# Altium schematic symbol library BOT1_2025.SchLib: 300 symbols (part 1 of 3)
Pins are listed as number, name and electrical type; pins without a type are passive.

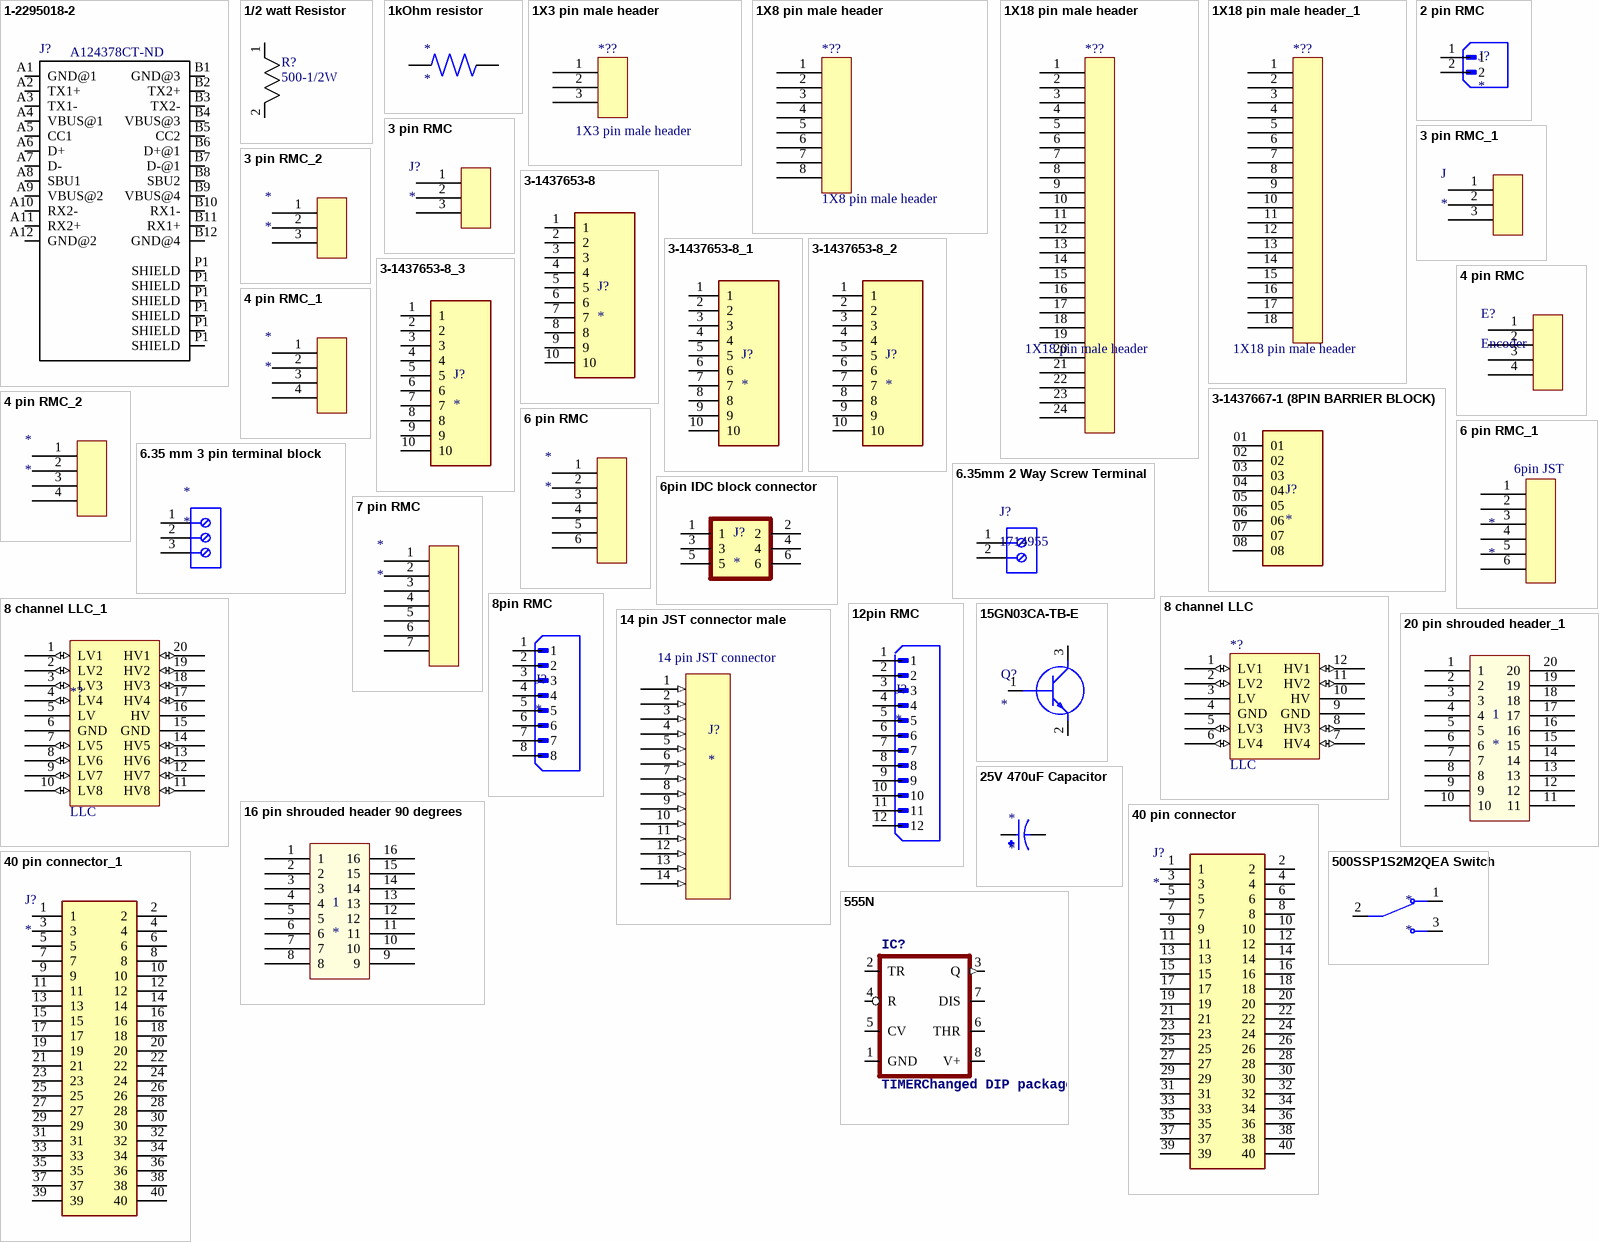
[diagram p0: symbols 1-2295018-2 to 555N]

## 1-2295018-2
designator J?, comment Supplier Part Number 1: A124378CT-ND  (hidden comment: 1-2295018-2 USB C Connector)
Conn USB Type C RCP 12 POS Solder RA SMD 12 Terminal 1 Port T/R; MF: TE Connectivity; Availability: Unavailable; SnapEDA_Link: https://www.snapeda.com/parts/1-2295018-2/TE%20Connectivity%20AMP%20Connectors/view-part/?ref=snap; Price: None; TE_purchase_URL: https://www.te.com/usa-en/product-1-2295018-2.html?te_bu=Cor&te_type=disp&te_campaign=seda_glo_cor-seda-global-disp-prtnr-fy19-seda-model-bom-cta_sma-317_1&elqCampaignId=32493; Package: None; MP: 1-2295018-2; Value: *; Supplier 1: Digi-Key
footprint TE_1-2295018-2_1-2295018-2(Primary)
pins: A1 GND@1, A2 TX1+, A3 TX1-, A4 VBUS@1, A5 CC1, A6 D+, A7 D-, A8 SBU1, A9 VBUS@2, A10 RX2-, A11 RX2+, A12 GND@2, B1 GND@3, B2 TX2+, B3 TX2-, B4 VBUS@3, B5 CC2, B6 D+@1, B7 D-@1, B8 SBU2, B9 VBUS@4, B10 RX1-, B11 RX1+, B12 GND@4, P1 SHIELD, P1 SHIELD, P1 SHIELD, P1 SHIELD, P1 SHIELD, P1 SHIELD

## 1/2 watt Resistor
designator R?, comment 500-1/2W
footprint R_Axial_DIN0309_L9.0mm_D3.2mm_P12.70mm_Horizontal
pins: 1, 2

## 1kOhm resistor
designator *
footprint 1kOhm Resistor
pins: 1, 2

## 1X3 pin male header
designator *??
footprint PinHeader_1x03_P2.54mm_Vertical
pins: 1, 2, 3

## 1X8 pin male header
designator *??
footprint PinHeader_1x08_P2.54mm_Vertical
pins: 1, 2, 3, 4, 5, 6, 7, 8

## 1X18 pin male header
designator *??
footprint PinHeader_1x18_P2.54mm_Vertical
pins: 1, 2, 3, 4, 5, 6, 7, 8, 9, 10, 11, 12, 13, 14, 15, 16, 17, 18, 19, 20, 21, 22, 23, 24

## 1X18 pin male header_1
designator *??, comment 1X18 pin male header
footprint PinHeader_1x18_P2.54mm_Vertical
pins: 1, 2, 3, 4, 5, 6, 7, 8, 9, 10, 11, 12, 13, 14, 15, 16, 17, 18

## 2 pin RMC
designator J?
Connector Header Through Hole 2 position 0.098 (2.50mm) JST; MF: JST Sales America Inc.; MP: B2B-XH-A(LF)(SN); SnapEDA_Link: https://www.snapeda.com/parts/B2B-XH-A(LF)(SN)/JST+Sales+America+Inc./view-part/?ref=snap; Package: None; Value: *; Check_prices: https://www.snapeda.com/parts/B2B-XH-A(LF)(SN)/JST+Sales+America+Inc./view-part/?ref=eda
footprint JST 2 PIN (BATTERY IN)
pins: 1, 2

## 3 pin RMC
designator J?
3 pin RMC
footprint Header JST 1X03
pins: 1, 2, 3

## 3 pin RMC_1
designator J
footprint Header JST 1X03
pins: 1, 2, 3

## 3 pin RMC_2
designator *
footprint Header JST 1X03
pins: 1, 2, 3

## 3-1437653-8
designator J?
MP: 3-1437653-8; Package: None; Price: None; Value: *; Availability: Unavailable
footprint TE_3-1437653-8
pins: 1, 2, 3, 4, 5, 6, 7, 8, 9, 10

## 3-1437653-8_1
designator J?
MP: 3-1437653-8; Package: None; Price: None; Value: *; Availability: Unavailable
footprint TE_3-1437653-8
pins: 1, 2, 3, 4, 5, 6, 7, 8, 9, 10

## 3-1437653-8_2
designator J?
MP: 3-1437653-8; Package: None; Price: None; Value: *; Availability: Unavailable
footprint TE_3-1437653-8
pins: 1, 2, 3, 4, 5, 6, 7, 8, 9, 10

## 3-1437653-8_3
designator J?
10 pin barrier block terminal; MP: 3-1437653-8; Package: None; Price: None; Value: *; Availability: Unavailable
footprint Block terminal (10 pin Barrier block terminal 9.50mm)
pins: 1, 2, 3, 4, 5, 6, 7, 8, 9, 10

## 3-1437667-1 (8PIN BARRIER BLOCK)
designator J?
8 Circuit 0.325 (8.26mm) Barrier Block Connector, Screws with Captive Plate; MP: 3-1437667-1; MF: TE Connectivity; Value: *; SnapEDA_Link: https://www.snapeda.com/parts/3-1437667-1/TE+Connectivity/view-part/?ref=snap; Check_prices: https://www.snapeda.com/parts/3-1437667-1/TE+Connectivity/view-part/?ref=eda; Availability: In Stock; Price: None; EU_RoHS_Compliance: Compliant; Package: None
footprint TE_3-1437667-1 (8 PIN Barrier block)
pins: 01, 02, 03, 04, 05, 06, 07, 08

## 4 pin RMC
designator E?, comment Encoder
footprint Header JST 1X04
pins: 1, 2, 3, 4

## 4 pin RMC_1
designator *
footprint Header JST 1X04
pins: 1, 2, 3, 4

## 4 pin RMC_2
designator *
footprint Header JST 1X04
pins: 1, 2, 3, 4

## 6 pin RMC
designator *
footprint HEADER JST 1X06 (U?)
pins: 1, 2, 3, 4, 5, 6

## 6 pin RMC_1
designator *
footprint 6 pin RMC (JST header)
pins: 1, 2, 3, 4, 5, 6
text: 6pin JST

## 6.35 mm 3 pin terminal block
designator *
footprint 6.35mm 3 Way Screw Terminal
pins: 1, 2, 3

## 6.35mm 2 Way Screw Terminal
designator J?, comment 1714955
PC Terminal Block, Pitch 6.35 mm, 1 x 2 Position, Height 21.5 mm, Tail Lenght 5.1 mm, RoHS, Bulk; Manufacturer: Phoenix Contact; Package Description: PC Terminal Block, Pitch 6.35 mm, 1 x 2 Position, Height 21.5 mm, Tail Lenght 5.1 mm; Datasheet URL: http://media.digikey.com/pdf/Data%20Sheets/Phoenix%20Contact%20PDFs/1714955.pdf; Package Reference: 1714955; Manufacturer URL: http://www.phoenixcontact.com/; Datasheet Version: 02/2010; Mounting Technology: ThroughHole
footprint 6.35mm 2 Way Screw Terminal (Terminal Block, 2-Leads, Body 12.7x12.5mm, Pitch 6.35mm)
pins: 1, 2

## 6pin IDC block connector
designator J?
AMP-LATCH 6 Position 2.54 mm Dual Row Through-Hole Straight Pin Header; Number_of_Positions: 6; MP: 2-1761603-1; MF: TE Connectivity; Centerline_Pitch: 2.54 mm[.1 in]; Product_Type: Connector; EU_RoHS_Compliance: Compliant; Purchase-URL: https://pricing.snapeda.com/search/part/2-1761603-1/?ref=eda; SnapEDA_Link: https://www.snapeda.com/parts/2-1761603-1/TE%20Connectivity%20AMP%20Connectors/view-part/519592/?ref=snap; Price: None; Package: None; Value: *; Check_prices: https://www.snapeda.com/parts/2-1761603-1/TE%20Connectivity%20AMP%20Connectors/view-part/519592/?ref=eda; Availability: Good
footprint 6pin IDC block connector
pins: 1, 2, 3, 4, 5, 6

## 7 pin RMC
designator *
footprint HEADER JST 1X07 (U?)
pins: 1, 2, 3, 4, 5, 6, 7

## 8 channel LLC
designator *?, comment LLC
footprint LLC
pins: 1 LV1 (io), 2 LV2 (io), 3 LV (power), 4 GND (power), 5 LV3 (io), 6 LV4 (io), 7 HV4 (io), 8 HV3 (io), 9 GND (power), 10 HV (power), 11 HV2 (io), 12 HV1 (io)

## 8 channel LLC_1
designator *?, comment LLC
footprint 8 channel LLC
pins: 1 LV1 (io), 2 LV2 (io), 3 LV3 (io), 4 LV4 (io), 5 LV (power), 6 GND (power), 7 LV5 (io), 8 LV6 (io), 9 LV7 (io), 10 LV8 (io), 11 HV8 (io), 12 HV7 (io), 13 HV6 (io), 14 HV5 (io), 15 GND (power), 16 HV (power), 17 HV4 (io), 18 HV3 (io), 19 HV2 (io), 20 HV1 (io)

## 8pin RMC
designator J?
8 pin RMC
footprint 8pin RMC
pins: 1, 2, 3, 4, 5, 6, 7, 8

## 12pin RMC
designator J?
12 pin RMC
footprint Header JST 1X12
pins: 1, 2, 3, 4, 5, 6, 7, 8, 9, 10, 11, 12

## 14 pin JST connector male
designator J?
footprint 14 pin JST connector (Pitch 2.54mm)
pins: 1 (in), 2 (in), 3 (in), 4 (in), 5 (in), 6 (in), 7 (in), 8 (in), 9 (in), 10 (in), 11 (in), 12 (in), 13 (in), 14 (in)
text: 14 pin JST connector

## 15GN03CA-TB-E
designator Q?
Transistor BJT NPN; Manufacturer_Name: onsemi; Manufacturer_Part_Number: 15GN03CA-TB-E; Datasheet Link: https://www.mouser.com/datasheet/2/308/ENA1106-D-117745.pdf; Height: 1.35mm; Mouser Part Number: 863-15GN03CA-TB-E; Mouser Price/Stock: https://www.mouser.co.uk/ProductDetail/ON-Semiconductor/15GN03CA-TB-E?qs=5C9Q4QJFsuPrDQA2X5K6OA%3D%3D
footprint SOT95P250X135-3N
pins: 1 B, 2 E, 3 C

## 16 pin shrouded header 90 degrees
designator 1
footprint 16 pin shrouded box 90 degrees
pins: 1, 2, 3, 4, 5, 6, 7, 8, 9, 10, 11, 12, 13, 14, 15, 16

## 20 pin shrouded header_1
designator 1
footprint 20 Pin Box Header .1"Sp Straight
pins: 1, 2, 3, 4, 5, 6, 7, 8, 9, 10, 11, 12, 13, 14, 15, 16, 17, 18, 19, 20

## 25V 470uF Capacitor
designator *
footprint 25V 470uF Capacitor
pins: N, P

## 40 pin connector
designator J?
Connector; Manufacturer_Name: Adafruit; Manufacturer_Part_Number: 4079; Datasheet Link: https://cdn-shop.adafruit.com/product-files/4079/P4079_datasheet_F201-SGP-D055-40.pdf; Height: 8.65mm; Mouser Part Number: 485-4079; Mouser Price/Stock: https://www.mouser.co.uk/ProductDetail/Adafruit/4079?qs=vLWxofP3U2w4WK9643znRA%3D%3D; Arrow Part Number: 4079; Arrow Price/Stock: https://www.arrow.com/en/products/4079/adafruit-industries?region=nac
footprint RHDR40W60P254X254_2X20_5130X500X865P
pins: 1, 2, 3, 4, 5, 6, 7, 8, 9, 10, 11, 12, 13, 14, 15, 16, 17, 18, 19, 20, 21, 22, 23, 24, 25, 26, 27, 28, 29, 30, 31, 32, 33, 34, 35, 36, 37, 38, 39, 40

## 40 pin connector_1
designator J?
Connector; Manufacturer_Name: Adafruit; Manufacturer_Part_Number: 4079; Datasheet Link: https://cdn-shop.adafruit.com/product-files/4079/P4079_datasheet_F201-SGP-D055-40.pdf; Height: 8.65mm; Mouser Part Number: 485-4079; Mouser Price/Stock: https://www.mouser.co.uk/ProductDetail/Adafruit/4079?qs=vLWxofP3U2w4WK9643znRA%3D%3D; Arrow Part Number: 4079; Arrow Price/Stock: https://www.arrow.com/en/products/4079/adafruit-industries?region=nac
footprint RHDR40W60P254X254_2X20_5130X500X865P
pins: 1, 2, 3, 4, 5, 6, 7, 8, 9, 10, 11, 12, 13, 14, 15, 16, 17, 18, 19, 20, 21, 22, 23, 24, 25, 26, 27, 28, 29, 30, 31, 32, 33, 34, 35, 36, 37, 38, 39, 40

## 500SSP1S2M2QEA Switch
designator *
pins: 1 NC, 2 COM, 3 NO

## 555N
designator IC?, comment TIMERChanged DIP package to have round (not oval) pin pads    http://www.ladyada.net/library/pcb/eaglelibrary.html
footprint DIL08-ROUND
pins: 1 GND (power), 2 TR, 3 Q (out), 4 R, 5 CV, 6 THR, 7 DIS, 8 V+ (power)

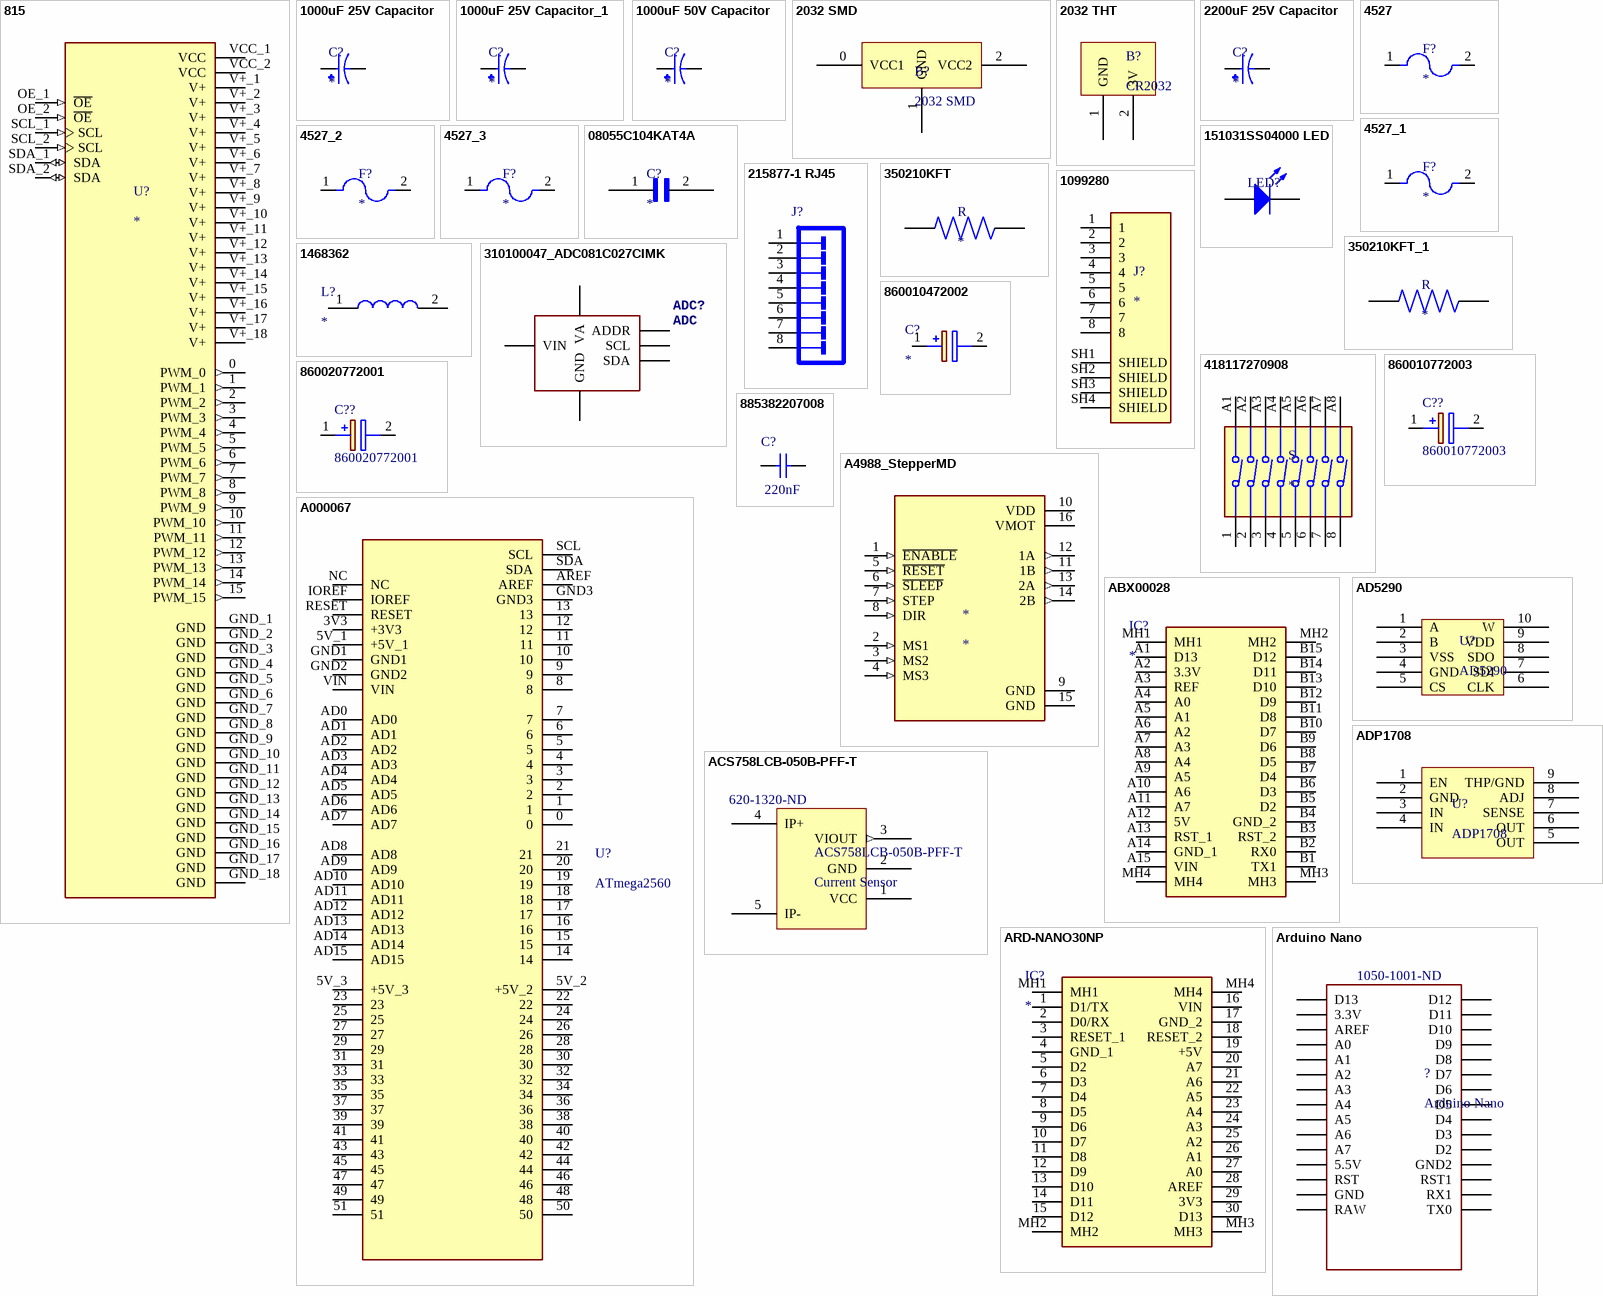
[diagram p1: symbols 815 to Arduino Nano]

## 815
designator U?
Adafruit 16-Channel 12-bit PWM/Servo Driver - I2C interface - PCA9685; MP: 815; SnapEDA_Link: https://www.snapeda.com/parts/815/Adafruit+Industries/view-part/?ref=snap; Package: Non-Standard Adafruit; Value: *; MF: Adafruit; Check_prices: https://www.snapeda.com/parts/815/Adafruit+Industries/view-part/?ref=eda
footprint MODULE_815
pins: 0 PWM_0 (out), 1 PWM_1 (out), 2 PWM_2 (out), 3 PWM_3 (out), 4 PWM_4 (out), 5 PWM_5 (out), 6 PWM_6 (out), 7 PWM_7 (out), 8 PWM_8 (out), 9 PWM_9 (out), 10 PWM_10 (out), 11 PWM_11 (out), 12 PWM_12 (out), 13 PWM_13 (out), 14 PWM_14 (out), 15 PWM_15 (out), GND_1 GND (power), GND_2 GND (power), GND_3 GND (power), GND_4 GND (power), GND_5 GND (power), GND_6 GND (power), GND_7 GND (power), GND_8 GND (power), GND_9 GND (power), GND_10 GND (power), GND_11 GND (power), GND_12 GND (power), GND_13 GND (power), GND_14 GND (power), GND_15 GND (power), GND_16 GND (power), GND_17 GND (power), GND_18 GND (power), OE_1 ~{OE} (in), OE_2 ~{OE} (in), SCL_1 SCL (in), SCL_2 SCL (in), SDA_1 SDA (io), SDA_2 SDA (io), V+_1 V+ (power), V+_2 V+ (power), V+_3 V+ (power), V+_4 V+ (power), V+_5 V+ (power), V+_6 V+ (power), V+_7 V+ (power), V+_8 V+ (power), V+_9 V+ (power), V+_10 V+ (power), V+_11 V+ (power), V+_12 V+ (power), V+_13 V+ (power), V+_14 V+ (power), V+_15 V+ (power), V+_16 V+ (power), V+_17 V+ (power), V+_18 V+ (power), VCC_1 VCC (power), VCC_2 VCC (power)

## 1000uF 25V Capacitor
designator C?
CAP ALUM 1000UF 20% 25V RADIAL; MP: EEUTA1E102LB; MF: Panasonic; Package: RADIAL-2 Panasonic; Availability: No availability data; Price: None; Check_prices: https://www.snapeda.com/parts/EEUTA1E102LB/Panasonic/view-part/5789306/?ref=eda; SnapEDA_Link: https://www.snapeda.com/parts/EEUTA1E102LB/Panasonic/view-part/5789306/?ref=snap; Value: *
footprint 1000uF 25V Capacitor
pins: N, P

## 1000uF 25V Capacitor_1
designator C?
CAP ALUM 1000UF 20% 25V RADIAL; MP: EEUTA1E102LB; MF: Panasonic; Package: RADIAL-2 Panasonic; Availability: No availability data; Price: None; Check_prices: https://www.snapeda.com/parts/EEUTA1E102LB/Panasonic/view-part/5789306/?ref=eda; SnapEDA_Link: https://www.snapeda.com/parts/EEUTA1E102LB/Panasonic/view-part/5789306/?ref=snap; Value: *
footprint 1000uF 25V Capacitor
pins: N, P

## 1000uF 50V Capacitor
designator C?
CAP ALUM 1000UF 20% 50V RADIAL; MF: Panasonic; MP: EEU-HD1H102B; Availability: In Stock; Check_prices: https://www.snapeda.com/parts/EEU-HD1H102B/Panasonic/view-part/2335470/?ref=eda; Package: RADIAL-2 Panasonic; Price: None; SnapEDA_Link: https://www.snapeda.com/parts/EEU-HD1H102B/Panasonic/view-part/2335470/?ref=snap; Value: *
footprint 1000uF 50V Capacitor
pins: N, P

## 2032 SMD
designator B?
footprint 2032 SMD
pins: 0 VCC1, 1 GND, 2 VCC2

## 2032 THT
designator B?, comment CR2032
footprint CR2032THT
pins: 1 GND, 2 3V

## 2200uF 25V Capacitor
designator C?
Aluminum Electrolytic Capacitors, TA-A Series, 2200uF +/- 20%, 25V, Radial lead type(16x31.5mm); MF: Panasonic; MP: EEUTA1E222; Package: RADIAL-2 Panasonic; Purchase-URL: https://pricing.snapeda.com/search/part/EEUTA1E222/?ref=eda; Value: *; Availability: In Stock; SnapEDA_Link: https://www.snapeda.com/parts/EEUTA1E222/Panasonic/view-part/5784153/?ref=snap; Price: None; Check_prices: https://www.snapeda.com/parts/EEUTA1E222/Panasonic/view-part/5784153/?ref=eda
footprint CAP 2200uF 25V
pins: N, P

## 4527
designator F?
5mm Low Profile Holder; MP: 4527; MF: Keystone; Price: None; Purchase-URL: https://pricing.snapeda.com/search/part/4527/?ref=eda; Package: None; Availability: In Stock; SnapEDA_Link: https://www.snapeda.com/parts/4527/Keystone+Electronics/view-part/?ref=snap; Value: *; Check_prices: https://www.snapeda.com/parts/4527/Keystone+Electronics/view-part/?ref=eda
footprint FUSE_4527
pins: 1, 2

## 4527_1
designator F?
5mm Low Profile Holder; MP: 4527; MF: Keystone; Price: None; Purchase-URL: https://pricing.snapeda.com/search/part/4527/?ref=eda; Package: None; Availability: In Stock; SnapEDA_Link: https://www.snapeda.com/parts/4527/Keystone+Electronics/view-part/?ref=snap; Value: *; Check_prices: https://www.snapeda.com/parts/4527/Keystone+Electronics/view-part/?ref=eda
footprint FUSE_4527
pins: 1, 2

## 4527_2
designator F?
5mm Low Profile Holder; MP: 4527; MF: Keystone; Price: None; Purchase-URL: https://pricing.snapeda.com/search/part/4527/?ref=eda; Package: None; Availability: In Stock; SnapEDA_Link: https://www.snapeda.com/parts/4527/Keystone+Electronics/view-part/?ref=snap; Value: *; Check_prices: https://www.snapeda.com/parts/4527/Keystone+Electronics/view-part/?ref=eda
footprint FUSE_4527
pins: 1, 2

## 4527_3
designator F?
5mm Low Profile Holder; MP: 4527; MF: Keystone; Price: None; Purchase-URL: https://pricing.snapeda.com/search/part/4527/?ref=eda; Package: None; Availability: In Stock; SnapEDA_Link: https://www.snapeda.com/parts/4527/Keystone+Electronics/view-part/?ref=snap; Value: *; Check_prices: https://www.snapeda.com/parts/4527/Keystone+Electronics/view-part/?ref=eda
footprint FUSE_4527
pins: 1, 2

## 08055C104KAT4A
designator C?
0.1ÂµF Â±10% 50V Ceramic Capacitor X7R 0805 (2012 Metric); MP: 08055C104KAT4A; MF: AVX; Availability: Good; SnapEDA_Link: https://www.snapeda.com/parts/08055C104KAT4A/AVX%20/%20Kyocera/view-part/523845/?ref=snap; Value: *; Price: None; Package: 2012 AVX; Purchase-URL: https://pricing.snapeda.com/search/part/08055C104KAT4A/?ref=eda
footprint CAPC2012X94N (2012 smd capacitor)
pins: 1 "capacitor", 2 (power) "capacitor"

## 151031SS04000 LED
designator LED?
THT LED round mono-color color lens, WL-TMRW, Super Red; PartNumber: 151031SS04000; PackageReference: Type 3mm; Emitting color: Super Red; ComponentLink1Description: Manufacturer URL; ComponentLink1URL: http://www.we-online.com; ComponentLink2Description: Datasheet; ComponentLink2URL: http://katalog.we-online.de/pbs/datasheet/7448042001.pdfhttp://katalog.we-online.de/pbs/datasheet/7448042001.pdfhttp://katalog.we-online.de/pbs/datasheet/7448042001.pdfhttp://katalog.we-online.de/pbs/datasheet/151031SS04000.pdf
footprint LED Type 3mm (THT, LED-3mm, 2pin- Body 4.15mm(max))
pins: 1 K, 2 A

## 215877-1 RJ45
designator J?
Female Header, Pitch 2.54 mm, 2 x 4 Position, Height 11.5 mm, Tail Length 3 mm, -40 to 105 degC, RoHS, Tape and Reel; Dynamic Catalog: Modular Jacks; Other Names: A105009CT; Number of Ports: 1; Connector Type: Jack; LED Color: Does Not Contain LED; Ratings: Cat3; Number of Positions/Contacts: 8p8c (RJ45, Ethernet); 3D Model: 215877-1.pdf; Tab Direction: Down; Shielding: Unshielded; DatasheetVersion: Rev. AE; PackageReference: THD; Supplier 1: Digi-Key; Supplier Part Number 1: A105009TR-ND; Supplier 2: Digi-Key; Supplier Part Number 2: A105009CT-ND; Features: Board Lock; Packaging: Cut Tape (CT); Termination: Solder; Family: Modular Connectors - Jacks; Contact Finish: Gold; Housing Material: Polybutylene Terephthalate (PBT); RoHS Information: 215877-1 Statement of Compliance; Mounting Type: Through Hole; Contact Material: Phosphor Bronze; Orientation: 90° Angle (Right); Standard Package: 1; Number of Rows: 1; Category: Connectors, Interconnects; ComponentLink1Description: Manufacturer URL; ComponentLink1URL: http://www.te.com; ComponentLink2Description: Datasheet; ComponentLink2URL: https://datasheet.ciiva.com/16310/215877-1-16310656.pdf
footprint TECO-215877-1_V_RJ45 (TH, 8-Leads, Body 18.1x15.2mm RJ45)
pins: 1, 2, 3, 4, 5, 6, 7, 8

## 350210KFT
designator R
10 kOhms Â±1% 2W Chip Resistor 2010 _5025 Metric_ Thick Film; MF: TE Connectivity; MP: 350210KFT; SnapEDA_Link: https://www.snapeda.com/parts/350210KFT/TE%20Connectivity/view-part/3996379/?ref=snap; Package: 5025 TE Connectivity; Price: None; TE_purchase_URL: https://www.te.com/usa-en/product-9-2176397-7.html?te_bu=Cor&te_type=disp&te_campaign=seda_glo_cor-seda-global-disp-prtnr-fy19-seda-model-bom-cta_sma-317_1&elqCampaignId=32493; Availability: Unavailable; Value: *
footprint RESC5025X120N
pins: 1, 2

## 350210KFT_1
designator R
10 kOhms Â±1% 2W Chip Resistor 2010 _5025 Metric_ Thick Film; MF: TE Connectivity; MP: 350210KFT; SnapEDA_Link: https://www.snapeda.com/parts/350210KFT/TE%20Connectivity/view-part/3996379/?ref=snap; Package: 5025 TE Connectivity; Price: None; TE_purchase_URL: https://www.te.com/usa-en/product-9-2176397-7.html?te_bu=Cor&te_type=disp&te_campaign=seda_glo_cor-seda-global-disp-prtnr-fy19-seda-model-bom-cta_sma-317_1&elqCampaignId=32493; Availability: Unavailable; Value: *
footprint RESC5025X120N
pins: 1, 2

## 1099280
designator J?
RJ 45 Ethernet port; MP: 1099280; Package: None; Price: None; Value: *; Availability: Unavailable
footprint PHOENIX_1099280
pins: 1, 2, 3, 4, 5, 6, 7, 8, SH1 SHIELD, SH2 SHIELD, SH3 SHIELD, SH4 SHIELD

## 1468362
designator L?
Inductor; Manufacturer_Name: Murata Electronics; Manufacturer_Part_Number: 1468362; Datasheet Link: https://www.mouser.com/datasheet/2/281/kmp_1400-38440.pdf; Height: 15mm; Mouser Part Number: 580-1468362; Mouser Price/Stock: https://www.mouser.com/Search/Refine.aspx?Keyword=580-1468362
footprint 1468362
pins: 1, 2

## 310100047_ADC081C027CIMK
designator ADC?, comment ADC
footprint SOT236
pins: 1 VA (power), 2 GND (power), 3 VIN, 4 ADDR, 5 SCL, 6 SDA

## 418117270908
designator S
Dip Switch SPST 8 Position Through Hole Slide (Standard) Actuator 25mA 24VDC; MP: 418117270908; MF: Wurth Electronics; Value: *; Availability: Bad; Price: None; Package: None; DigiKey-Purchase-URL: https://snapeda.com/shop?store=DigiKey&id=3210805; SnapEDA_Link: https://www.snapeda.com/parts/418117270908/Wurth%20Electronics%20Inc./view-part/3210805/?ref=snap; Mouser-Purchase-URL: https://snapeda.com/shop?store=Mouser&id=3210805
footprint 418117270908
pins: 1, 2, 3, 4, 5, 6, 7, 8, A1, A2, A3, A4, A5, A6, A7, A8

## 860010472002
designator C?
Capacitor Polarised; Manufacturer_Name: Wurth Elektronik; Manufacturer_Part_Number: 860010472002; Datasheet Link: https://www.we-online.com/catalog/datasheet/860010472002.pdf; Height: 12.5mm; Mouser Part Number: 710-860010472002; Mouser Price/Stock: https://www.mouser.co.uk/ProductDetail/Wurth-Elektronik/860010472002?qs=0KOYDY2FL2%2FyXlauDHcLjg%3D%3D
footprint CAPPRD200W52D500H1250
pins: 1 +, 2 -

## 860010772003
designator C??
Capacitor Polarised; Manufacturer_Name: Wurth Elektronik; Datasheet Link: https://componentsearchengine.com/Datasheets/2/860010772003.pdf; Height: 12.5mm; Manufacturer_Part_Number: 860010772003; Mouser Part Number: 710-860010772003; Mouser Price/Stock: https://www.mouser.co.uk/ProductDetail/Wurth-Elektronik/860010772003?qs=0KOYDY2FL29PTpt3pWRF6g%3D%3D
footprint CAPPRD200W52D500H1250
pins: 1 +, 2 -

## 860020772001
designator C??
Capacitor Polarised; Manufacturer_Name: Wurth Elektronik; Datasheet Link: http://katalog.we-online.de/pbs/datasheet/860020772001.pdf; Height: 12mm; Manufacturer_Part_Number: 860020772001; Mouser Part Number: 710-860020772001; Mouser Price/Stock: https://www.mouser.co.uk/ProductDetail/Wurth-Elektronik/860020772001?qs=0KOYDY2FL2%2F1%2FcLhynxZVQ%3D%3D
footprint CAPPRD200W52D500H1200
pins: 1 +, 2 -

## 885382207008
designator C?, comment 220nF
WCAP-CSST Multilayer Ceramic Chip Capacitor, Soft Termination, SMT, size 0805, X7R Class II, 220nF, 50V; Manufacturer Part Number: 885382207008; Manufacturer: Wurth Elektronik; Case/Size Code: 0805; Capacitance Tolerance: +/-10%; Dissipation Factor: 3%; Insulation Resistance: 2.3GOhm; Technical Reference: X7R0805224K050DFCT1S000; Category: Multilayer Ceramic Chip Capacitors; Match Code: WCAP-CSST; ComponentLink1Description: Website Link; ComponentLink1URL: https://www.we-online.com/redexpert/article/885382207008?ad; ComponentLink2Description: Datasheet Link; ComponentLink2URL: https://www.we-online.com/redexpert/spec/885382207008?ad; Mount: Surface Mount; Operating Temperature Max: 125°C; Operating Temperature Min: -55°C; Packaging: Tape and Reel; Length: 2mm; Width: 1.25mm; Height: 1.25mm; Capacitance: 220nF; Ceramic Type: X7R Class II; Rated Voltage (DC): 50V
footprint WCAP-CSST_0805_L2W1.25H1.25
simulation model 0805_885382207008_220nF
pins: 1, 2

## A000067
designator U?, comment ATmega2560
ATmega2560 Microcontroller Mega Development Board 16MHz CPU 8KB RAM 4KB/256KB EEPROM/Flash; Manufacturer: Arduino; Manufacturer Part Number: A000067; Number of Bits: 8; Core Architecture: AVR; Evaluation Kit: Yes; Interface: USB,UART; Density: 256KB; Max Input Voltage: 12V; Min Input Voltage: 7V; Supplier 1: RSComponents; RoHS: No; Category: Embedded Processors and Controllers; Stock 1: 7329; Pricing 1: 1=39.87400, 10=36.28200, 50=34.68700 (USD); Weight: 0.11lb; Packaging: Bulk; Package Quantity: 1; Series: AVR® ATmega; Length: 7inch; Width: 4inch; Height: 0.25inch; REACH SVHC: Unknown; RoHS Compliant: Yes; ComponentLink1URL: https://datasheet.ciiva.com/17118/0900766b80e8ba22-17118566.pdf?src-supplier=Allied+Electronics; ComponentLink1Description: https://datasheet.ciiva.com/17118/0900766b80e8ba22-17118566.pdf?src-supplier=Allied+Electronics; ComponentLink2URL: https://datasheet.ciiva.com/14100/mega2560-eng-tds-14100429.pdf?src-supplier=Distrelec; ComponentLink2Description: https://datasheet.ciiva.com/14100/mega2560-eng-tds-14100429.pdf?src-supplier=Distrelec; ComponentLink3URL: https://datasheet.ciiva.com/19455/2152366-19455442.pdf?src-supplier=Jameco; ComponentLink3Description: https://datasheet.ciiva.com/19455/2152366-19455442.pdf?src-supplier=Jameco; ComponentLink4URL: https://datasheet.ciiva.com/6810/1674878-6810805.pdf?src-supplier=Newark; ComponentLink4Description: https://datasheet.ciiva.com/6810/1674878-6810805.pdf?src-supplier=Newark; ComponentLink5URL: https://datasheet.ciiva.com/20168/73-4450-20168545.pdf?src-supplier=Rapid+Electronics; ComponentLink5Description: https://datasheet.ciiva.com/20168/73-4450-20168545.pdf?src-supplier=Rapid+Electronics; ComponentLink6URL: https://datasheet.ciiva.com/29142/191790-sp-01-en-arduino-mega-2560-board-29142322.pdf?src-supplier=Conrad; ComponentLink6Description: https://datasheet.ciiva.com/29142/191790-sp-01-en-arduino-mega-2560-board-29142322.pdf?src-supplier=Conrad; ComponentLink7URL: https://datasheet.ciiva.com/2398/atmel-2549-8-bit-avr-microcontroller-atmega640-1280-1281-2560-2561-datasheet-2398238.pdf?src-supplier=Digi-Key; ComponentLink7Description: https://datasheet.ciiva.com/2398/atmel-2549-8-bit-avr-microcontroller-atmega640-1280-1281-2560-2561-datasheet-2398238.pdf?src-supplier=Digi-Key; Supplier Part Number 1: 7154084
footprint arduino mega
pins: 0, 1, 2, 3, 3V3 +3V3, 4, 5, 5V_1 +5V_1, 5V_2 +5V_2, 5V_3 +5V_3, 6, 7, 8, 9, 10, 11, 12, 13, 14, 15, 16, 17, 18, 19, 20, 21, 22, 23, 24, 25, 26, 27, 28, 29, 30, 31, 32, 33, 34, 35, 36, 37, 38, 39, 40, 41, 42, 43, 44, 45, 46, 47, 48, 49, 50, 51, AD0, AD1, AD2, AD3, AD4, AD5, AD6, AD7, AD8, AD9, AD10, AD11, AD12, AD13, AD14, AD15, AREF, GND1, GND2, GND3, IOREF, NC, RESET, SCL, SDA, VIN

## A4988_StepperMD
designator *
footprint A4988_StepperMD
pins: 1 ~{ENABLE} (in), 2 MS1 (in), 3 MS2 (in), 4 MS3 (in), 5 ~{RESET} (in), 6 ~{SLEEP} (in), 7 STEP (in), 8 DIR (in), 9 GND (power), 10 VDD (power), 11 1B (out), 12 1A (out), 13 2A (out), 14 2B (out), 15 GND (power), 16 VMOT (power)

## ABX00028
designator IC?
Integrated Circuit; Manufacturer_Name: Arduino; Manufacturer_Part_Number: ABX00028; Datasheet Link: https://store.arduino.cc/arduino-nano-every; Height: 10mm; Mouser Part Number: 782-ABX00028; Mouser Price/Stock: https://www.mouser.co.uk/ProductDetail/Arduino/ABX00028?qs=PzGy0jfpSMtit6rnFl8mVg%3D%3D; Arrow Part Number: ABX00028; Arrow Price/Stock: https://www.arrow.com/en/products/abx00028/arduino-corporation?region=nac
footprint ABX00028
pins: A1 D13, A2 3.3V, A3 REF, A4 A0, A5 A1, A6 A2, A7 A3, A8 A4, A9 A5, A10 A6, A11 A7, A12 5V, A13 RST_1, A14 GND_1, A15 VIN, B1 TX1, B2 RX0, B3 RST_2, B4 GND_2, B5 D2, B6 D3, B7 D4, B8 D5, B9 D6, B10 D7, B11 D8, B12 D9, B13 D10, B14 D11, B15 D12, MH1, MH2, MH3, MH4

## ACS758LCB-050B-PFF-T
designator ACS758LCB-050B-PFF-T, comment Current Sensor  Supplier Part Number 1: 620-1320-ND
Thermally Enhanced, Fully Integrated, Hall Effect-Based  Linear Current Sensor IC with 100 µΩ Current Conductor; Manufacturer: Allegro MicroSystems, LLC; Manufacturer Part Number: ACS758LCB-050B-PFF-T; For Measuring: AC/DC; Sensor Type: Hall Effect, Open Loop; Current - Sensing: 50A; Number of Channels: 1; Output: Ratiometric, Voltage; Sensitivity: 40mV/A; Frequency: DC ~ 120kHz; Linearity: ±1%; Accuracy: ±2%; Voltage - Supply: 3 V ~ 5.5 V; Response Time: 4µs; Current - Supply (Max): 13.5mA; Polarization: Bidirectional; Supplier 1: Digi-Key; RoHS: RoHS Compliant; Category: Sensors, Transducers; Stock 1: 7507; Pricing 1: 1=7.98, 5=7, 10=6.3, 25=5.6, 50=5.18, 100=4.48, 500=4.2, 1000=3.92, 5000=3.724 (USD); Packaging: Tube; Operating Temperature: -40°C ~ 150°C; Mounting Type: Through Hole; Package / Case: 5-CB Formed Leads, PFF; ComponentLink1URL: http://www.allegromicro.com/en/Products/Part_Numbers/0758/0758.pdf; ComponentLink1Description: http://www.allegromicro.com/en/Products/Part_Numbers/0758/0758.pdf
footprint ACS758LCB-050B-PFF-T
pins: 1 VCC (power), 2 GND (power), 3 VIOUT (out), 4 IP+ (power), 5 IP- (power)

## AD5290
designator U?
Digital Potentiometer
footprint MSOP10 (MSOP 10 pitch 0.5mm)
pins: 1 A, 2 B, 3 VSS, 4 GND, 5 CS, 6 CLK, 7 SDI, 8 SDO, 9 VDD, 10 W

## ADP1708
designator U?
1 A, Low Dropout,  CMOS Linear Regulator
footprint SOIC 8 - THPAD (8-Pin Small Outline Integrated Circuit 1.27 mm Pitch, IPC Medium Density)
pins: 1 EN, 2 GND, 3 IN, 4 IN, 5 OUT, 6 OUT, 7 SENSE, 8 ADJ, 9 THP/GND

## ARD-NANO30NP
designator IC?
Integrated Circuit; Manufacturer_Name: Gravitech; Manufacturer_Part_Number: ARD-NANO30NP; Datasheet Link: http://www.mouser.com/datasheet/2/595/Arduino_Nano3_0-220057.pdf; Height: 5mm; Mouser Part Number: 992-ARD-NANO30NP; Mouser Price/Stock: https://www.mouser.co.uk/ProductDetail/Gravitech/ARD-NANO30NP?qs=Vxac6xGyzPlh7in3DWNTbQ%3D%3D
footprint ARDNANO30NP
pins: 1 D1/TX, 2 D0/RX, 3 RESET_1, 4 GND_1, 5 D2, 6 D3, 7 D4, 8 D5, 9 D6, 10 D7, 11 D8, 12 D9, 13 D10, 14 D11, 15 D12, 16 VIN, 17 GND_2, 18 RESET_2, 19 +5V, 20 A7, 21 A6, 22 A5, 23 A4, 24 A3, 25 A2, 26 A1, 27 A0, 28 AREF, 29 3V3, 30 D13, MH1, MH2, MH3, MH4

## Arduino Nano
designator ?  Supplier Part Number 1: 1050-1001-ND
Manufacturer Part Number: A000005; Board Type: Evaluation Platform; Core Processor: AVR; For Use With/Related Products: ATmega328; Contents: Board(s); Supplier 1: Digi-Key; Manufacturer: Arduino; RoHS: RoHS Compliant; Category: Programmers, Development Systems; Stock 1: 0; Pricing 1: 1=0 (USD); Type: MCU 8-Bit; Operating System: -; Platform: Arduino Nano; Mounting Type: Fixed; ComponentLink1URL: http://media.digikey.com/pdf/Data%20Sheets/Arduino%20PDFs/A000005.pdf; ComponentLink1Description: http://media.digikey.com/pdf/Data%20Sheets/Arduino%20PDFs/A000005.pdf
footprint Arduino Nano (Arduino Nano, ATMEGA328)
pins: 3.3V, 5V 5.5V, A0, A1, A2, A3, A4, A5, A6, A7, AREF, D2, D3, D4, D5, D6, D7, D8, D9, D10, D11, D12, D13, GND, GND1 GND2, RAW, RST, RST1, RX1, TX0

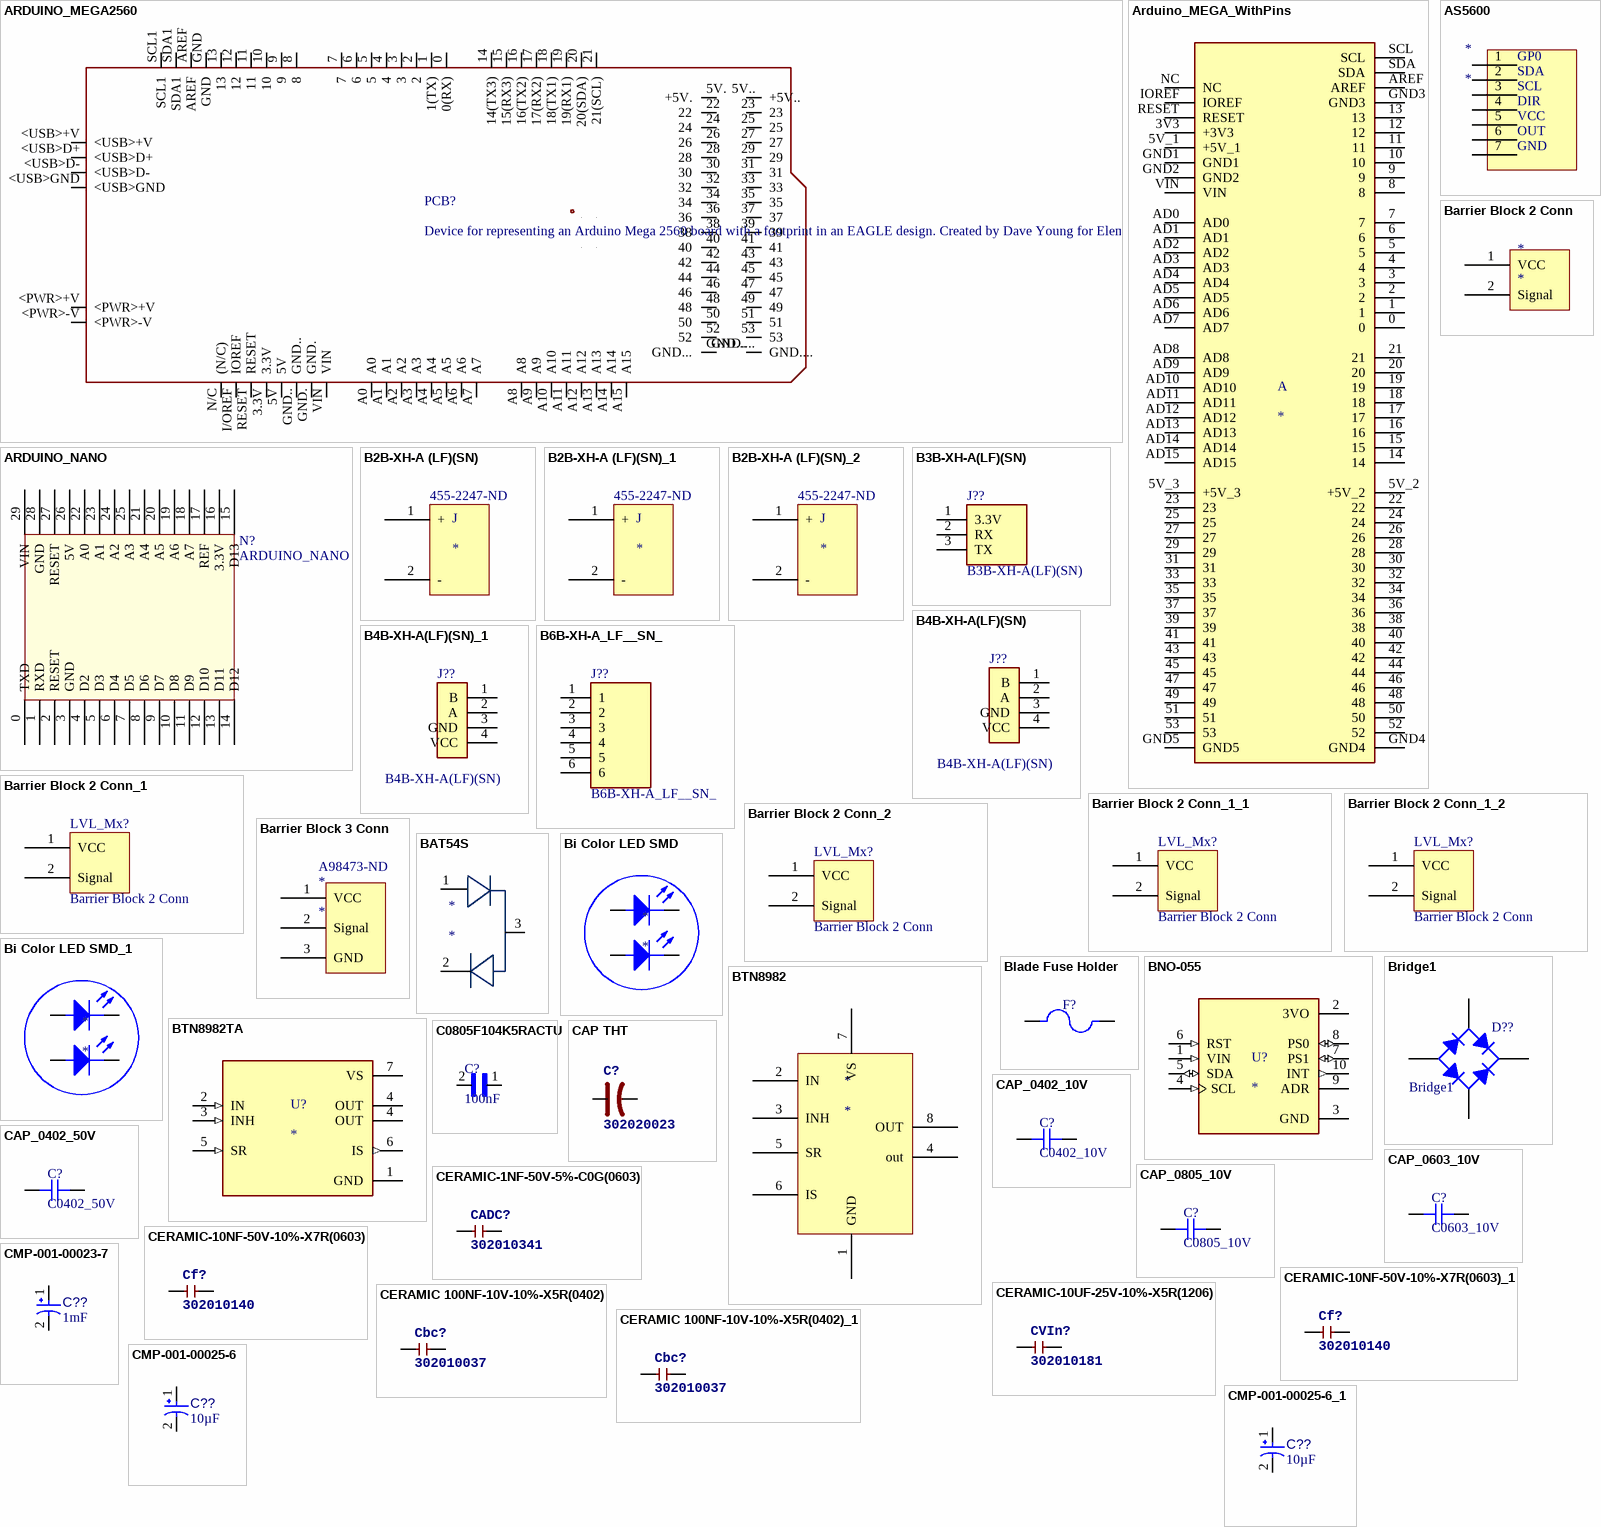
[diagram p2: symbols ARDUINO_MEGA2560 to CMP-001-00025-6_1]

## ARDUINO_MEGA2560
designator PCB?, comment Device for representing an Arduino Mega 2560 board with a footprint in an EAGLE design. Created by Dave Young for Element14. More EAGLE documentation at: http://www.element14.com/community/community/knode/cadsoft_eagle
footprint ARDUINO_MEGA2560
pins: 0 0(RX), 1 1(TX), 2, 3, 3.3V, 4, 5, 5V, 5V. +5V., 5V.. +5V.., 6, 7, 8, 9, 10, 11, 12, 13, 14 14(TX3), 15 15(RX3), 16 16(TX2), 17 17(RX2), 18 18(TX1), 19 19(RX1), 20 20(SDA), 21 21(SCL), 22, 23, 24, 25, 26, 27, 28, 29, 30, 31, 32, 33, 34, 35, 36, 37, 38, 39, 40, 41, 42, 43, 44, 45, 46, 47, 48, 49, 50, 51, 52, 53, +5V_, <PWR>+V, <PWR>-V, <USB>+V, <USB>D+, <USB>D-, <USB>GND, A0, A1, A2, A3, A4, A5, A6, A7, A8, A9, A10, A11, A12, A13, A14, A15, AREF, GND, GND., GND.., GND..., GND...., GND__, I/OREF IOREF, MISO, MOSI, N/C (N/C), RESET, RESET., SCK, SCL1, SDA1, VIN

## Arduino_MEGA_WithPins
designator A
ATmega2560 Arduino Mega2560 AVRÂ® ATmega AVR MCU 8-Bit Embedded Evaluation Board; MP: A000067; Availability: Unavailable; Package: None; SnapEDA_Link: https://www.snapeda.com/parts/A000067/Arduino/view-part/557398/?ref=snap; Price: None; Value: *; MF: Arduino
footprint ARDUINO_MEGA_WithPins
pins: 0, 1, 2, 3, 3V3 +3V3, 4, 5, 5V_1 +5V_1, 5V_2 +5V_2, 5V_3 +5V_3, 6, 7, 8, 9, 10, 11, 12, 13, 14, 15, 16, 17, 18, 19, 20, 21, 22, 23, 24, 25, 26, 27, 28, 29, 30, 31, 32, 33, 34, 35, 36, 37, 38, 39, 40, 41, 42, 43, 44, 45, 46, 47, 48, 49, 50, 51, 52, 53, AD0, AD1, AD2, AD3, AD4, AD5, AD6, AD7, AD8, AD9, AD10, AD11, AD12, AD13, AD14, AD15, AREF, GND1, GND2, GND3, GND4, GND5, IOREF, NC, RESET, SCL, SDA, VIN

## ARDUINO_NANO
designator N?
ATSAMD21G18A Arduino Nano 33 IoT SAM D ARMÂ® CortexÂ®-M0+ MCU 32-Bit Embedded Evaluation Board; MP: ARDUINO NANO; Package: None; Price: None; Availability: Unavailable; Value: *; MF: Arduino; SnapEDA_Link: https://www.snapeda.com/parts/ARDUINO%20NANO/Arduino/view-part/1128261/?ref=snap
footprint SHIELD_ARDUINO_NANO
pins: 0 TXD, 1 RXD, 2 RESET, 3 GND, 4 D2, 5 D3, 6 D4, 7 D5, 8 D6, 9 D7, 10 D8, 11 D9, 12 D10, 13 D11, 14 D12, 15 D13, 16 3.3V, 17 REF, 18 A7, 19 A6, 20 A5, 21 A4, 22 A0, 23 A1, 24 A2, 25 A3, 26 5V, 27 RESET, 28 GND, 29 VIN

## AS5600
designator *
footprint AS5600
pins: 1, 2, 3, 4, 5, 6, 7
text: GP0; SDA; SCL; DIR; VCC; OUT; GND

## B2B-XH-A (LF)(SN)
designator J  Supplier Part Number 1: 455-2247-ND
Supplier 1: Digi-Key
footprint JST 2 PIN (BATTERY IN)
pins: 1 +, 2 -

## B2B-XH-A (LF)(SN)_1
designator J  Supplier Part Number 1: 455-2247-ND
Supplier 1: Digi-Key
footprint JST 2 PIN (BATTERY IN)
pins: 1 +, 2 -

## B2B-XH-A (LF)(SN)_2
designator J  Supplier Part Number 1: 455-2247-ND
Supplier 1: Digi-Key
footprint JST 2 PIN (BATTERY IN)
pins: 1 +, 2 -

## B3B-XH-A(LF)(SN)
designator J??
Connector Header Through Hole 3 position 0.098 (2.50mm); MF: JST Sales; Check_prices: https://www.snapeda.com/parts/B3B-XH-A(LF)(SN)/JST%20Sales%20America%20Inc./view-part/231271/?ref=eda; Value: *; Package: None; Price: None; Availability: In Stock; MP: B3B-XH-A(LF)(SN); SnapEDA_Link: https://www.snapeda.com/parts/B3B-XH-A(LF)(SN)/JST%20Sales%20America%20Inc./view-part/231271/?ref=snap
footprint JST_B3B-XH-A(LF)(SN)
pins: 1 3.3V, 2 RX, 3 TX

## B4B-XH-A(LF)(SN)
designator J??
Connector Header Through Hole 4 position 0.098 (2.50mm); MF: JST Sales; Check_prices: https://www.snapeda.com/parts/B4B-XH-A(LF)(SN)/JST%20Sales%20America%20Inc./view-part/447494/?ref=eda; Purchase-URL: https://pricing.snapeda.com/search/part/B4B-XH-A(LF)(SN)/?ref=eda; SnapEDA_Link: https://www.snapeda.com/parts/B4B-XH-A(LF)(SN)/JST%20Sales%20America%20Inc./view-part/447494/?ref=snap; Price: None; Value: *; MP: B4B-XH-A(LF)(SN); Package: None; Availability: Warning
footprint JST_B4B-XH-A(LF)(SN)
pins: 1 B, 2 A, 3 GND, 4 VCC

## B4B-XH-A(LF)(SN)_1
designator J??, comment B4B-XH-A(LF)(SN)
Connector Header Through Hole 4 position 0.098 (2.50mm); MF: JST Sales; Check_prices: https://www.snapeda.com/parts/B4B-XH-A(LF)(SN)/JST%20Sales%20America%20Inc./view-part/447494/?ref=eda; Purchase-URL: https://pricing.snapeda.com/search/part/B4B-XH-A(LF)(SN)/?ref=eda; SnapEDA_Link: https://www.snapeda.com/parts/B4B-XH-A(LF)(SN)/JST%20Sales%20America%20Inc./view-part/447494/?ref=snap; Price: None; Value: *; MP: B4B-XH-A(LF)(SN); Package: None; Availability: Warning
footprint JST_B4B-XH-A(LF)(SN)
pins: 1 B, 2 A, 3 GND, 4 VCC

## B6B-XH-A_LF__SN_
designator J??
Connector; Manufacturer_Name: JST (JAPAN SOLDERLESS TERMINALS); Manufacturer_Part_Number: B6B-XH-A(LF)(SN); Datasheet Link: https://datasheet.lcsc.com/szlcsc/JST-Sales-America-B6B-XH-A-LF-SN_C144397.pdf; Height: 7mm; Arrow Part Number: B6B-XH-A(LF)(SN); Arrow Price/Stock: https://www.arrow.com/en/products/b6b-xh-a-lf-sn/jst-manufacturing
footprint SHDR6W64P0X250_1X6_1740X575X700P
pins: 1, 2, 3, 4, 5, 6

## Barrier Block 2 Conn
designator *
footprint 2 Barrier Block - duplicate (A98472-ND)
pins: 1 VCC, 2 Signal

## Barrier Block 2 Conn_1
designator LVL_Mx?, comment Barrier Block 2 Conn
footprint 2 Barrier Block 5mm
pins: 1 VCC, 2 Signal

## Barrier Block 2 Conn_1_1
designator LVL_Mx?, comment Barrier Block 2 Conn
footprint 2 Barrier Block 5mm
pins: 1 VCC, 2 Signal

## Barrier Block 2 Conn_1_2
designator LVL_Mx?, comment Barrier Block 2 Conn
footprint 2 Barrier Block - duplicate (A98472-ND)
footprint 2 Barrier Block 5mm
pins: 1 VCC, 2 Signal

## Barrier Block 2 Conn_2
designator LVL_Mx?, comment Barrier Block 2 Conn
footprint 2 Barrier Block - duplicate (A98472-ND)
footprint 2 Barrier Block 5mm
pins: 1 VCC, 2 Signal

## Barrier Block 3 Conn
designator *  Supplier Part Number 1: A98473-ND
Supplier 1: Digi-Key
footprint 3 Barrier Block (A98473-ND)
pins: 1 VCC, 2 Signal, 3 GND

## BAT54S
designator *
Supplier 1: Mouser; Supplier Part Number 1: 512-BAT54S
footprint BAT54s
pins: 1, 2, 3

## Bi Color LED SMD
designator *
footprint BI COLOR LED
pins: 1 A, 2 K, 3 A, 4 K

## Bi Color LED SMD_1
designator *
footprint BI COLOR LED
pins: 1 A, 2 K, 3 A, 4 K

## Blade Fuse Holder
designator F?
Blade Fuse holder
footprint Blade fuse holder
pins: 1_1 1, 1_2 1, 2_1 2, 2_2 2

## BNO-055
designator U?
Adafruit 9-DOF Absolute Orientation IMU Fusion Breakout - BNO055 | Adafruit Industries 2472; MP: 2472; SnapEDA_Link: https://www.snapeda.com/parts/2472/Adafruit+Industries/view-part/?ref=snap; Package: Non-Standard Adafruit; Value: *; MF: Adafruit; Check_prices: https://www.snapeda.com/parts/2472/Adafruit+Industries/view-part/?ref=eda
footprint BNO-055
pins: 1 VIN (in), 2 3VO (power), 3 GND (power), 4 SCL (in), 5 SDA (io), 6 RST (in), 7 PS1 (io), 8 PS0 (io), 9 ADR, 10 INT (out)

## Bridge1
designator D??
Full Wave Diode Bridge; Published: 8-Jun-2000; LatestRevisionDate: 29-May-2009; LatestRevisionNote: Sch pins A & K swapped.; DatasheetVersion: E2732B; PackageReference: D-38; Publisher: Altium Limited; PackageDescription: Bridge Rectifier; 4 Terminals; Body 9.4 x 9.4 mm (typ); Pitch 5.08 mm
footprint D-38 (Bridge Rectifier; 4 Terminals; Body 9.4 x 9.4 mm (typ); Pitch 5.08 mm)
simulation model BRIDGE (Spice Subcircuit)
pins: 1 K, 2 C, 3 A, 4 C

## BTN8982
designator *
BTN8982; Supplier 1: RSComponents
footprint BTN8982 (Infineon BTN8982TA)
pins: 1 GND, 2 IN, 3 INH, 4 out, 5 SR, 6 IS, 7 VS, 8 OUT

## BTN8982TA
designator U?
Motor / Motion / Ignition Controllers & Drivers TRILITH IC / NOVALITH IC; MP: BTN8982TA; MF: Infineon Technologies; Price: None; Availability: In Stock; Package: TO-263-8 Infineon Technologies; SnapEDA_Link: https://www.snapeda.com/parts/BTN8982TA/Infineon+Technologies/view-part/?ref=snap; Check_prices: https://www.snapeda.com/parts/BTN8982TA/Infineon+Technologies/view-part/?ref=eda; Value: *; Purchase-URL: https://pricing.snapeda.com/search/part/BTN8982TA/?ref=eda
footprint BTN8982 Motor driver
pins: 1 GND (power), 2 IN (in), 3 INH (in), 4 OUT (power), 4 OUT (power), 5 SR (in), 6 IS (out), 7 VS (power)

## C0805F104K5RACTU
designator C?, comment 100nF
0.1ÂµF Â±10% 50V Ceramic Capacitor X7R 0805 _2012 Metric_; MF: KEMET; MP: C0805F104K5RACTU; Package: 0805 KEMET; Digi-Key_Part_Number: 399-5110-1-ND; Digi-Key_Purchase_URL: https://www.digikey.com.mx/product-detail/en/kemet/C0805F104K5RACTU/399-5110-1-ND/1465635?utm_source=snapeda&utm_medium=aggregator&utm_campaign=symbol; SnapEDA_Link: https://www.snapeda.com/parts/C0805F104K5RACTU/KEMET/view-part/982423/?ref=snap; Value: *
footprint CAPC2012X88N (100nf 0805 ceramic)
pins: 1, 2

## CAP THT
designator C?, comment 302020023
footprint CAP TH
pins: 1 +, 2 -

## CAP_0402_10V
designator C?, comment C0402_10V
Capacitor SMD 0402 10V
footprint CAP_0402
pins: 1, 2

## CAP_0402_50V
designator C?, comment C0402_50V
Capacitor SMD 0402 50V
footprint CAP_0402
pins: 1, 2

## CAP_0603_10V
designator C?, comment C0603_10V
Capacitor SMD 0603 10V
footprint CAP_0603
pins: 1, 2

## CAP_0805_10V
designator C?, comment C0805_10V
Capacitor SMD 0805 10V
footprint CAP_0805
pins: 1, 2

## CERAMIC-1NF-50V-5%-C0G(0603)
designator CADC?, comment 302010341
MPN: GRM1885C1H102JA01D
footprint C0603
pins: 1, 2

## CERAMIC-10NF-50V-10%-X7R(0603)
designator Cf?, comment 302010140
MPN: CC0603KRX7R9BB103
footprint C0603
pins: 1, 2

## CERAMIC-10NF-50V-10%-X7R(0603)_1
designator Cf?, comment 302010140
MPN: CC0603KRX7R9BB103
footprint C0603
pins: 1, 2

## CERAMIC-10UF-25V-10%-X5R(1206)
designator CVIn?, comment 302010181
MPN: CC1206KKX5R8BB106
footprint C1206
pins: 1, 2

## CERAMIC 100NF-10V-10%-X5R(0402)
designator Cbc?, comment 302010037
MPN: CC0402KRX5R6BB104
footprint C0402
pins: 1, 2

## CERAMIC 100NF-10V-10%-X5R(0402)_1
designator Cbc?, comment 302010037
MPN: CC0402KRX5R6BB104
footprint C0402
pins: 1, 2

## CMP-001-00023-7
designator C??, comment value 1mF  (hidden comment: ECA1EM102)
Aluminum Electrolytic Capacitor, 1000 uF, +/- 20%, 25 V, -40 to 85 degC, 2-Pin THD, RoHS, Bulk; Manufacturer: Panasonic; Manufacturer Part Number: ECA-1EM102; Voltage Rating: 25V; Ripple Current: 850mA; Mounting Technology: TH; Datasheet URL: https://industrial.panasonic.com/cdbs/www-data/pdf/RDF0000/ABA0000C1218.pdf; Package Reference: CAPPR65-500-2000X1000X2200; RoHS Compliant: True; Package Description: 2-Pin Radial Lead, Dia 10 mm, Height 22 mm; Case/Package: Radial; Lead Pitch: 5mm; Min Operating Temperature: -40°C; Datasheet Version: Rev. 05, 10/2016; Manufacturer URL: http://www.panasonic.com/; Max Operating Temperature: 85°C; Tolerance: 20%; Capacitor Type: Electrolytic; Diameter: 10mm; Packaging: Bulk; Package Quantity: 200; Component Type: Capacitors
footprint CAPPR65-500-2000X1000X2200 (THD, 2-Leads, Dia 10mm, Pin Spacing 5mm)
pins: 1, 2

## CMP-001-00025-6
designator C??, comment value 10µF  (hidden comment: ECA1HM100)
Aluminum Electrolytic Capacitor, 10 uF, +/- 20%, 50 V, -40 to 85 degC, 2-Pin THD, RoHS, Bulk; Manufacturer: Panasonic; Manufacturer Part Number: ECA-1HM100; Voltage Rating: 50V; Ripple Current (AC): 65mA; Capacitor Type: Electrolytic; Case/Package: Radial; Datasheet URL: https://industrial.panasonic.com/cdbs/www-data/pdf/RDF0000/ABA0000C1218.pdf; Package Description: 2-Pin Radial Lead, Dia 5 mm, Height 12 mm; Mounting Technology: TH; Tolerance: 20%; Packaging: Bulk; Datasheet Version: Rev. 05, 10/2016; Min Operating Temperature: -40°C; Lead Pitch: 2mm; Pins: 2; Diameter: 5mm; Ripple Current: 65mA; Package Reference: CAPPR55-200-1100X500X1200; Manufacturer URL: http://www.panasonic.com/; RoHS Compliant: True; Package Quantity: 200; Max Operating Temperature: 85°C; Component Type: Capacitors
footprint CAPPR55-200-1100X500X1200 (THD, 2-Leads, Dia 5mm, Pin Spacing 2mm)
pins: 1, 2

## CMP-001-00025-6_1
designator C??, comment value 10µF  (hidden comment: ECA1HM100)
Aluminum Electrolytic Capacitor, 10 uF, +/- 20%, 50 V, -40 to 85 degC, 2-Pin THD, RoHS, Bulk; Manufacturer: Panasonic; Manufacturer Part Number: ECA-1HM100; Voltage Rating: 50V; Ripple Current (AC): 65mA; Capacitor Type: Electrolytic; Case/Package: Radial; Datasheet URL: https://industrial.panasonic.com/cdbs/www-data/pdf/RDF0000/ABA0000C1218.pdf; Package Description: 2-Pin Radial Lead, Dia 5 mm, Height 12 mm; Mounting Technology: TH; Tolerance: 20%; Packaging: Bulk; Datasheet Version: Rev. 05, 10/2016; Min Operating Temperature: -40°C; Lead Pitch: 2mm; Pins: 2; Diameter: 5mm; Ripple Current: 65mA; Package Reference: CAPPR55-200-1100X500X1200; Manufacturer URL: http://www.panasonic.com/; RoHS Compliant: True; Package Quantity: 200; Max Operating Temperature: 85°C; Component Type: Capacitors
footprint CAPPR55-200-1100X500X1200 (THD, 2-Leads, Dia 5mm, Pin Spacing 2mm)
pins: 1, 2

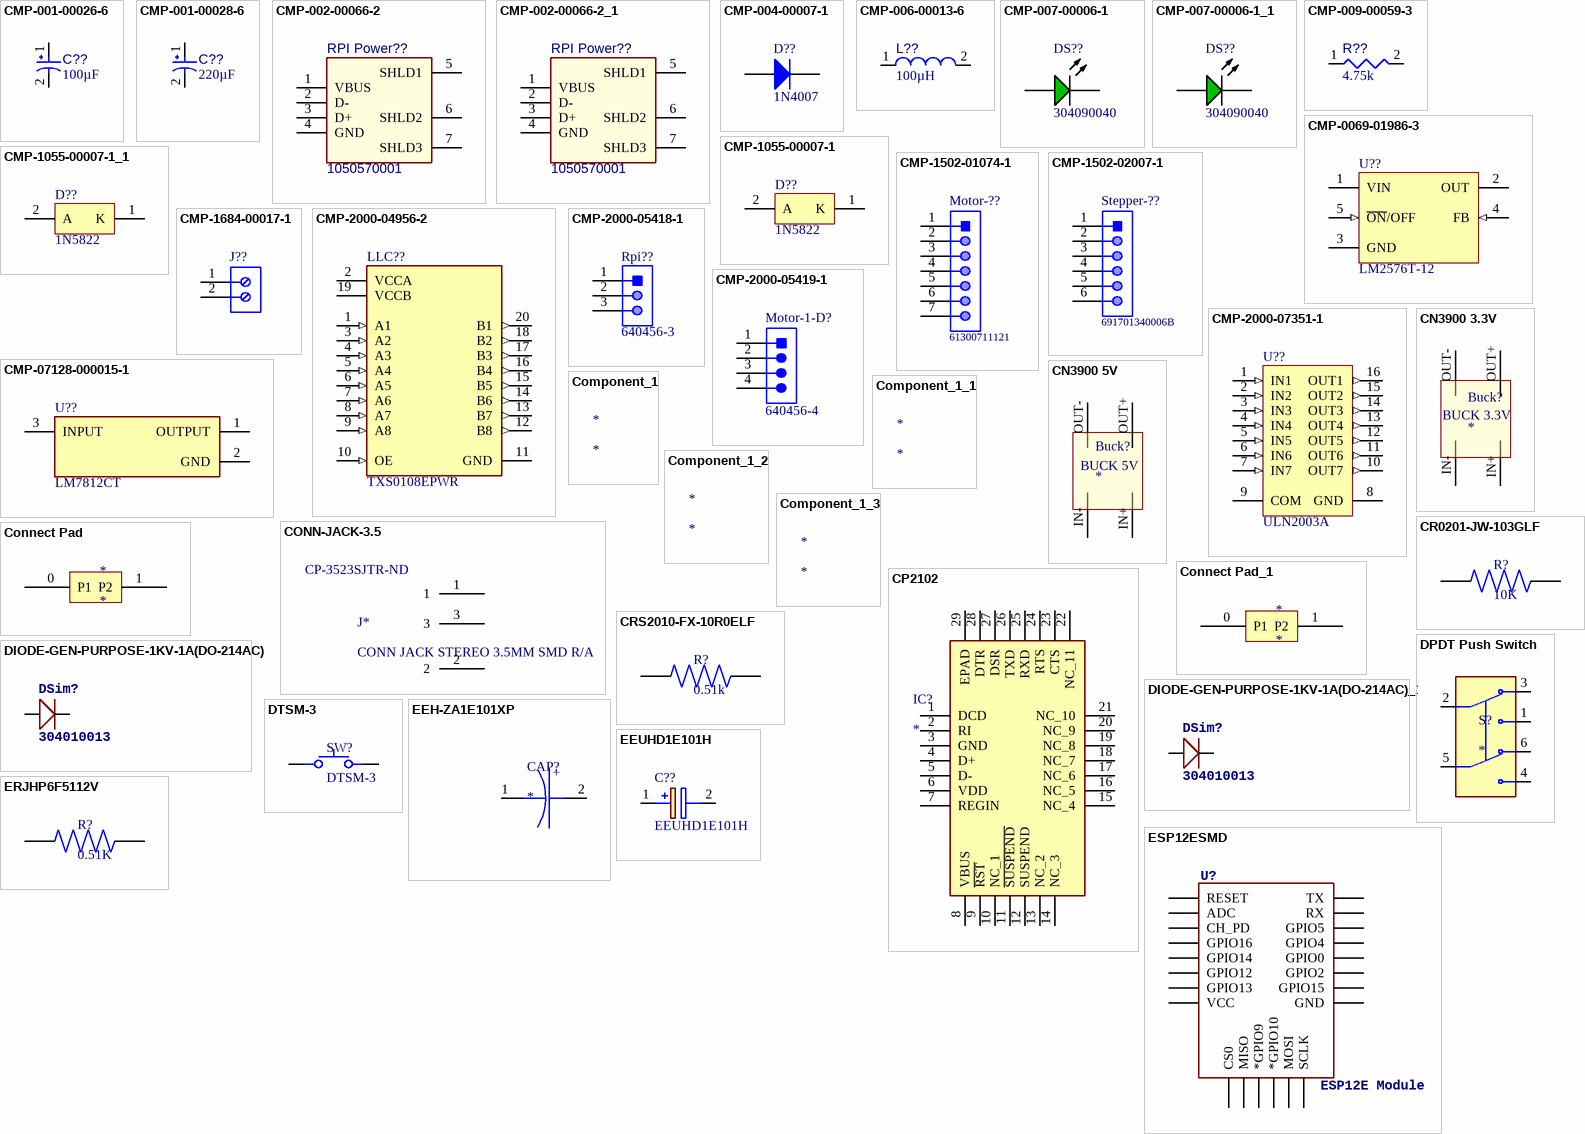
[diagram p3: symbols CMP-001-00026-6 to ESP12ESMD]

## CMP-001-00026-6
designator C??, comment value 100µF  (hidden comment: ECA1HM101)
Aluminum Electrolytic Capacitor, 100 uF, +/- 20%, 50 V, -40 to 85 degC, 2-Pin THD, RoHS, Bulk; Manufacturer: Panasonic; Manufacturer Part Number: ECA-1HM101; Ripple Current (AC): 250mA; Voltage Rating: 50V; Package Description: 2-Pin Radial Lead, Dia 8 mm, Height 12.5 mm; Datasheet URL: https://industrial.panasonic.com/cdbs/www-data/pdf/RDF0000/ABA0000C1218.pdf; Lead Pitch: 3.5mm; Datasheet Version: Rev. 05, 10/2016; RoHS Compliant: True; Ripple Current: 250mA; Max Operating Temperature: 85°C; Packaging: Bulk; Manufacturer URL: http://www.panasonic.com/; Min Operating Temperature: -40°C; Package Reference: CAPPR65-350-1150X800X1250; Package Quantity: 200; Diameter: 8mm; Capacitor Type: Electrolytic; Tolerance: 20%; Pins: 2; Case/Package: Radial; Mounting Technology: TH; Component Type: Capacitors
footprint CAPPR65-350-1150X800X1250 (THD, 2-Leads, Dia 8mm, Pin Spacing 3.5mm)
pins: 1, 2

## CMP-001-00028-6
designator C??, comment value 220µF  (hidden comment: ECA-1HM221)
Aluminum Electrolytic Capacitor, 220 uF, +/- 20%, 50 V, -40 to 85 degC, 2-Pin THD, RoHS, Bulk; Manufacturer: Panasonic; Voltage Rating: 50V; Ripple Current: 400mA; Package Quantity: 200; Package Description: 2-Pin Radial Lead, Dia 10 mm, Body Length 12.5 mm; RoHS Compliant: True; Case/Package: Radial; Pins: 2; Mounting Technology: TH; Min Operating Temperature: -40°C; Packaging: Bulk; Ripple Current (AC): 400mA; Manufacturer URL: http://www.panasonic.com/; Diameter: 10mm; Tolerance: 20%; Package Reference: CAPPR65-500-1250X1000X1350; Max Operating Temperature: 85°C; Datasheet URL: http://industrial.panasonic.com/cdbs/www-data/pdf/RDF0000/DMF0000COL68.pdf; Lead Pitch: 5mm; Datasheet Version: Mar-16; Capacitor Type: Electrolytic; Manufacturer Part Number: ECA-1HM221; Component Type: Capacitors
footprint CAPPR65-500-1250X1000X1350 (THD, 2-Leads, Dia 10mm, Body Length 12.5mm)
pins: 1, 2

## CMP-002-00066-2
designator RPI Power??, comment 1050570001
USB-A Connector, 30 V, 1.5 A, -40 to 85 degC, RoHS, Tape and Reel; Manufacturer: Molex; Gender: RCP; Pins: 7; RoHS Compliant: Yes; Manufacturer Part Number: 1050570001; Component Type: Connectors
footprint MOLX-1050570001_V (THD, 4-Leads, Body 14.63x7.25mm)
pins: 1 VBUS, 2 D-, 3 D+, 4 GND, 5 SHLD1, 6 SHLD2, 7 SHLD3

## CMP-002-00066-2_1
designator RPI Power??, comment 1050570001
USB-A Connector, 30 V, 1.5 A, -40 to 85 degC, RoHS, Tape and Reel; Manufacturer: Molex; Gender: RCP; Pins: 7; RoHS Compliant: Yes; Manufacturer Part Number: 1050570001; Component Type: Connectors
footprint MOLX-1050570001_V (THD, 4-Leads, Body 14.63x7.25mm)
pins: 1 VBUS, 2 D-, 3 D+, 4 GND, 5 SHLD1, 6 SHLD2, 7 SHLD3

## CMP-004-00007-1
designator D??, comment 1N4007
General Purpose Rectifier, 1.1 V, 1.0 A, -55 to 175 degC, 2-Pin DO-41, RoHS, Tape and Reel; Manufacturer: Fairchild; Manufacturer: Diodes; Manufacturer Part Number: 1N4007-T; Package Version: Rev. 2, 09/2008; Elements: 1; Forward Current: 1A; Max Surge Current: 30A; Forward Voltage: 1.1V; Peak Reverse Current: 5uA; Min Operating Temperature: -55°C; Case/Package: DO-41-2; Max Operating Temperature: 175°C; Package Description: 2-Pin Axial Lead, Dia 2.375 mm, Body Length 4.63 mm; RoHS Compliant: True; Datasheet Version: Rev. 1.1.0, 11/2014; Pins: 2; Package URL: http://www.fairchildsemi.com/dwg/DO/DO41A.pdf; Manufacturer URL: https://www.fairchildsemi.com/; Packaging: TapeandReel; Mounting Technology: TH; Package Quantity: 5000; Package Reference: DO-41-2; Datasheet URL: https://www.fairchildsemi.com/datasheets/1N/1N4007.pdf; Component Type: Diodes
footprint FAIR-DO-41-2 (THD, 2-Leads, Body 5.2x2.72mm, Pin Spacing 7.8mm)
pins: 1 K, 2 A

## CMP-006-00013-6
designator L??, comment value 100µH  (hidden comment: RL622-101K-RC)
Radial Inductor, 100 uH, +/- 10%, 0.91 A, -55 to 105 degC, 2-Pin THD, RoHS, Bulk; Manufacturer: Bourns; Q Factor: 20; Shielding: Unshielded; Core Material: Ferrite; Self Resonant Frequency: 3.7MHz; Resistance: 0.28Ohm; Current Rating: 910mA; Datasheet URL: http://www.bourns.com/docs/Product-Datasheets/rl622_series.pdf; Pins: 2; Inductance Tolerance: 10%; Packaging: Bulk; Tolerance: 10%; Diameter: 8.5mm; RoHS Compliant: True; Max Operating Temperature: 105°C; Package Quantity: 100; Package Reference: INDR62-500-1100X850X1100; Mounting Technology: TH; Lead Pitch: 5mm; Datasheet Version: Aug-10; Min Operating Temperature: -55°C; Package Description: 2-Pin Radial Lead, Dia 8.5 mm, Pitch 5 mm; Case/Package: Radial; Manufacturer Part Number: RL622-101K-RC; Component Type: Inductors
footprint INDR62-500-1100X850X1100 (THD, 2-Leads, Dia 8.5mm, Pitch 5mm)
pins: 1, 2

## CMP-007-00006-1
designator DS??, comment 304090040
Green LED, 80 mW, 20 mA, -25 to 85 degC, 2-Pin THD; Manufacturer: Shenzhen CGX; Mounting Technology: TH; Case/Package: 304090040; Package Description: 2-Pin Through Hole Device, Dia 3 mm, Pitch 2.28 mm; RoHS Compliant: Unknown; Package Reference: 304090040; Datasheet Version: Rev. 1.0, 09/2014; Manufacturer URL: http://szcgx.com/; Datasheet URL: http://datasheet.octopart.com/304090040-Chengguangxing-datasheet-62330655.pdf; Component Type: LED
footprint LED-2P-2.28-3MM (LED, 2-Leads, Dia 3mm, Pitch 2.28mm)
pins: 1 A, 2 K

## CMP-007-00006-1_1
designator DS??, comment 304090040
Green LED, 80 mW, 20 mA, -25 to 85 degC, 2-Pin THD; Manufacturer: Shenzhen CGX; Mounting Technology: TH; Case/Package: 304090040; Package Description: 2-Pin Through Hole Device, Dia 3 mm, Pitch 2.28 mm; RoHS Compliant: Unknown; Package Reference: 304090040; Datasheet Version: Rev. 1.0, 09/2014; Manufacturer URL: http://szcgx.com/; Datasheet URL: http://datasheet.octopart.com/304090040-Chengguangxing-datasheet-62330655.pdf; Component Type: LED
footprint LED-2P-2.28-3MM (LED, 2-Leads, Dia 3mm, Pitch 2.28mm)
pins: 1 A, 2 K

## CMP-009-00059-3
designator R??, comment value 4.75k  (hidden comment: MFR-25FBF52-4K75)
Axial Resistor, 4.75 KOhm, +/- 1%, 0.25 W, -55 to 155 degC, 2-Pin THD, RoHS, Bulk; Manufacturer: Yageo; Voltage Rating: 250V; Power: 250mW; Min Operating Temperature: -55°C; Package Quantity: 200; Datasheet Version: Apr-13; Mounting Technology: TH; Package Description: 2-Pin Axial Lead, Dia 2.4 mm, Body Length 6.3 mm; Max Operating Temperature: 155°C; Composition: MetalFilm; RoHS Compliant: True; Package Reference: MFR-25; Tolerance: 1%; Case/Package: Axial; Datasheet URL: http://www.yageo.com/documents/recent/Yageo%20LR_MFR_2013.pdf; Manufacturer URL: http://www.yageo.com/; Packaging: Bulk; Manufacturer Part Number: MFR-25FBF52-4K75; Component Type: Resistors
footprint RESA60-630X240 (Axial Resistor, 2-Leads, Dia 2.4mm, Body Length 6.3mm)
pins: 1, 2
1 alternate drawing of the same symbol

## CMP-0069-01986-3
designator U??, comment LM2576T-12
SIMPLE SWITCHER® 3A Step-Down Voltage Regulator, 5-pin TO-220; Manufacturer: Texas Instruments; Manufacturer: TI National Semiconductor; PackageTopMarking: NSUZXYTTE#*LM2576T*-12 P+; PowerWise: N; PackageReference: KC0005A; RoHS: N; ComponentLink1URL: http://www.ti.com/general/docs/lit/getliterature.tsp?genericPartNumber=LM2576&fileType=pdf; PackageDescription: TO-220, Molded, 5 Lead, Straight; ComponentLink1Description: Datasheet URL; Code_JEDEC: TO-220-AB; CompType: Switcher; PinCount: 5; Manufacturer Part Number: LM2576T-12
footprint KC0005A (FM, 5-Leads, Body 10.16x8.46mm, Pitch 1.7mm)
pins: 1 VIN (power), 2 OUT (power), 3 GND (power), 4 FB (in), 5 ~{ON}/OFF (in)

## CMP-1055-00007-1
designator D??, comment 1N5822
Rectifier, 2-Pin Axial_Lead, Bulk Bag; Manufacturer: On Semiconductor; Manufacturer: ON Semiconductor / Fairchild; IFSM Max (A): 80; Note1: 0; Configuration: Single; PartNumber: 1N5822; ComponentLink2Description: Datasheet; RoHS: FALSE; PackageDescription: 2-Pin, Axial Lead, Diameter 5.05 mm; Mounting Technology: Through Hole; PackageReference: AXIAL_LEAD-2-267-05; ComponentLink1URL: http://www.onsemi.com/; PackageVersion: Rev. G, 06/2000; ComponentLink2URL: http://www.onsemi.cn/pub_link/Collateral/1N5820-D.PDF; ComponentLink3Description: Package Specification; ComponentLink1Description: Manufacturer URL; ComponentLink3URL: http://www.onsemi.com/pub_link/Collateral/267-05.PDF; Packing: Bulk Bag; DatasheetVersion: Rev. 10; Manufacturer Part Number: 1N5822
footprint FAIR-DO-41-2 (THD, 2-Leads, Body 5.2x2.72mm, Pin Spacing 7.8mm)
pins: 1 K, 2 A